# Altium footprint library 1586041-6.PcbLib: 1 footprints
Each footprint in its own frame and in the unit in brackets; x right, y up, seen from the top. Pads: shape width x height; smd on the part's side, far side on the other; paste and mask are expansions set on the pad; w line width, h text height; cw(c..) or ccw(c..) is an arc to the next point about the centre after c.
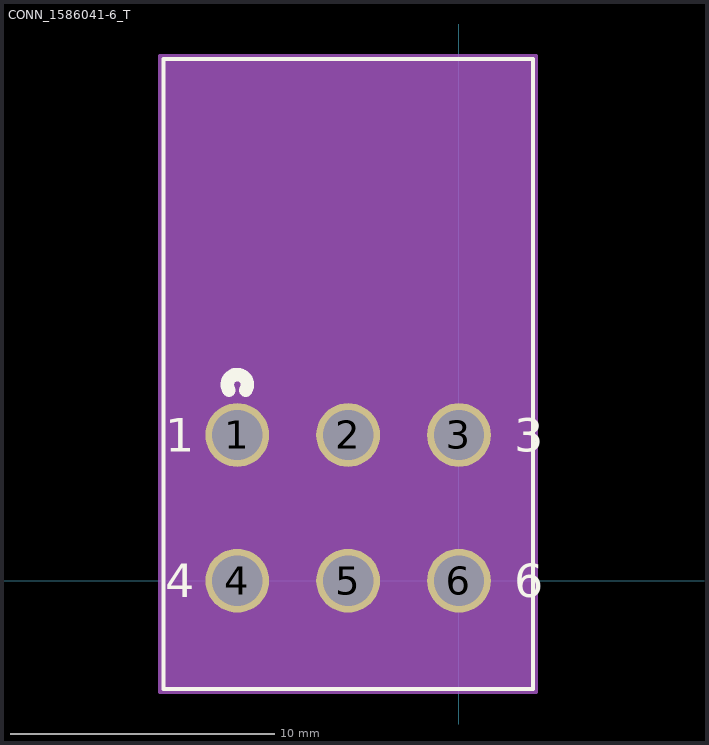
[diagram p0: the footprint, top view; thin cyan lines are the x and y axes]

## CONN_1586041-6_T [mil]
pads (6):
  round 95 hole 75: 1(-330,217) 2(-165,217) 3(0,217) 4(-330,0) 5(-165,0) 6(0,0)
Top Overlay:
  lines w6: -440,-161 -440,776.5 110,776.5 110,-161 -440,-161
  lines w20: -342.34,283.47 cw(c-330,292) -315,292 cw(c-330,292) -317.66,283.47
  text "6" at 82.5,-25 h50
  text "3" at 82.5,192 h50
  text "4" at -437.5,-25 h50
  text "1" at -437.5,192 h50
Bottom Overlay:
  circle w20: c-330,292 r15
  text "6" at 107.5,-25 h50
  text "3" at 107.5,192 h50
  text "4" at -412.5,-25 h50
  text "1" at -412.5,192 h50
Mechanical 13:
  circle w20: c-330,292 r15
  lines w1: -435,-156 -435,771.5 105,771.5 105,-156 -435,-156
  text "6" at 82.5,-25 h50
  text "3" at 82.5,192 h50
  text "4" at -437.5,-25 h50
  text "1" at -437.5,192 h50
Mechanical 15:
  region: 115,781.5 -445,781.5 -445,-166 115,-166
  lines w6: -445,-166 115,-166 115,781.5 -445,781.5 -445,-166
3D body: height 10, standoff 0, extent 0,0 10,10
3D body "c-1586041-6-b-3d.stp": height 463.03, standoff -119.65, extent -450.34,-20.72 112.65,772